# Altium schematic symbol library 拨码开关1.27mm.SchLib: 2 symbols
Pins are listed as number, name and electrical type; pins without a type are passive.

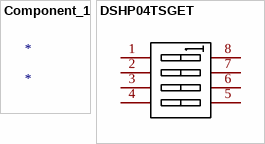
[diagram p0: symbols Component_1 to DSHP04TSGET]

## Component_1
designator *

## DSHP04TSGET
designator SW??  (value not drawn)
Manufacturer: YE; Symbol: DSHP04TSGER; Add into BOM: yes; Circuit: 单刀单掷; Number of Positions: 4; Name: DSHP04TSGET; Device: DSHP04TSGET; LCSC Part Name: 4位 1.27间距; Supplier Part: C40736; Manufacturer Part: DSHP04TSGET; Supplier Footprint: SMD-8P,6.6x5.4mm; JLCPCB Part Class: Extended Part; Datasheet: https://atta.szlcsc.com/upload/public/pdf/source/20150928/1457707425288.pdf; Supplier: LCSC; Convert to PCB: yes; Type: 平拨，凹槽式; Lead Pitch: 1.27mm; Color: 黑色
footprint SW-SMD_8P-L6.7-W5.4-P1.27-LS8.4
3D model SW-SMD_8P-L6.7-W5.4-H2.3-LS8.4-P1.27
pins: 1 A1, 2 A2, 3 A3, 4 A4, 5 B4, 6 B3, 7 B2, 8 B1